# Altium footprint library TO253P1057X470X2040-3.PcbLib: 1 footprints
Each footprint in its own frame and in the unit in brackets; x right, y up, seen from the top. Pads: shape width x height; smd on the part's side, far side on the other; paste and mask are expansions set on the pad; w line width, h text height; cw(c..) or ccw(c..) is an arc to the next point about the centre after c.
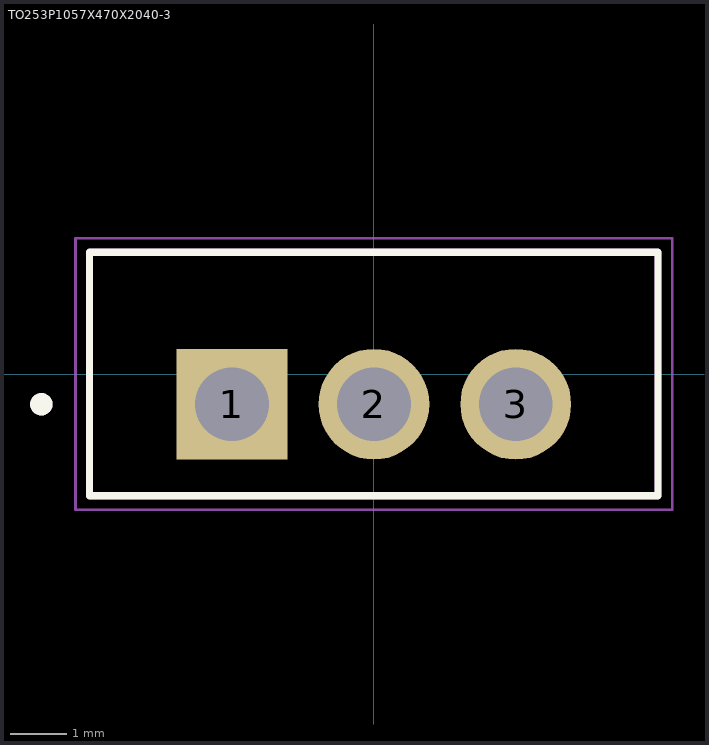
[diagram p0: the footprint, top view; thin cyan lines are the x and y axes]

## TO253P1057X470X2040-3 [mm]
pads (3):
  rect 1.98x1.98 / inner round 1.98 / far side rect 1.98x1.98 hole 1.32: 1(-2.535,-0.54)
  round 1.98 hole 1.32: 2(0,-0.54) 3(2.535,-0.54)
Top Overlay:
  circle w0.2: c-5.94,-0.54 r0.1
  lines w0.127: -5.08,-2.175 5.08,-2.175 5.08,2.175 -5.08,2.175 -5.08,-2.175
Assembly Top:
  circle w0.2: c-5.94,-0.54 r0.1
  lines w0.127: -5.08,-2.175 5.08,-2.175 5.08,2.175 -5.08,2.175 -5.08,-2.175
Courtyard Top:
  lines w0.05: -5.33,-2.425 5.33,-2.425 5.33,2.425 -5.33,2.425 -5.33,-2.425
3D body "step_temp.STEP": height 19.22, standoff -9.68, extent -5.1,-2.249 5.1,2.251